# Altium footprint library PCB - CONNECTOR -  Cliff FCR7350R.PCBLIB: 1 footprints
Each footprint in its own frame and in the unit in brackets; x right, y up, seen from the top. Pads: shape width x height; smd on the part's side, far side on the other; paste and mask are expansions set on the pad; w line width, h text height; cw(c..) or ccw(c..) is an arc to the next point about the centre after c.
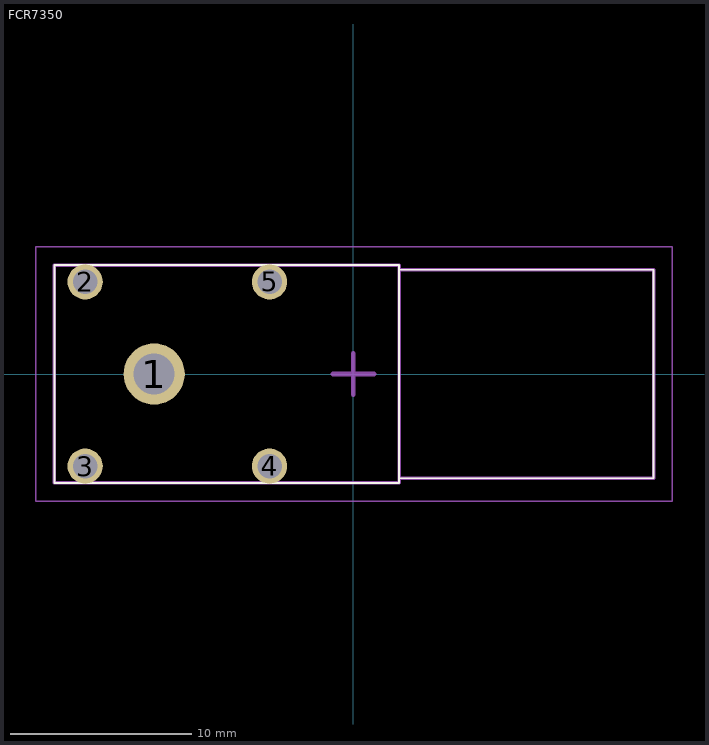
[diagram p0: the footprint, top view; thin cyan lines are the x and y axes]

## FCR7350 [mil]
pads (5):
  round 132.87 hole 88.58: 1(-432.22,0)
  round 76.5 hole 53.15: 2(-581.83,200) 3(-581.83,-200) 4(-181.83,-200) 5(-181.83,200)
Top Overlay:
  lines w3.94: 99.53,-226.38 651.6,-226.38 ; 99.53,226.38 651.58,226.38 ; 651.63,-226.38 651.63,226.38 ; -648.76,-236.22 -648.76,236.22 99.47,236.22 99.47,-236.21 -648.74,-236.22
Top Assembly:
  lines w7.87: 99.47,236.22 -648.74,236.22 -648.76,-236.22 99.47,-236.22 99.47,236.38 ; 99.53,-226.38 651.6,-226.38 ; 99.78,226.38 651.63,226.38 651.63,-226.38
Top Courtyard:
  lines w3: -689,-276 -645,-276 692,-276 692,275 691,276 -689,276 -689,-276
Top Designator:
  text ".Designator" at -313.22,-11.4 h60
Top Component Center:
  lines w10: -45,0 0,0 ; 0,-45 0,45 0,0 ; 45,0 0,0
3D body "FCR7350R.step": height 484.76, standoff -141.23, extent -648,-236.44 651.21,236